# Altium footprint library BrewBit.PcbLib: 85 footprints (part 4 of 6)
Each footprint in its own frame and in the unit in brackets; x right, y up, seen from the top. Pads: shape width x height; smd on the part's side, far side on the other; paste and mask are expansions set on the pad; w line width, h text height; cw(c..) or ccw(c..) is an arc to the next point about the centre after c.
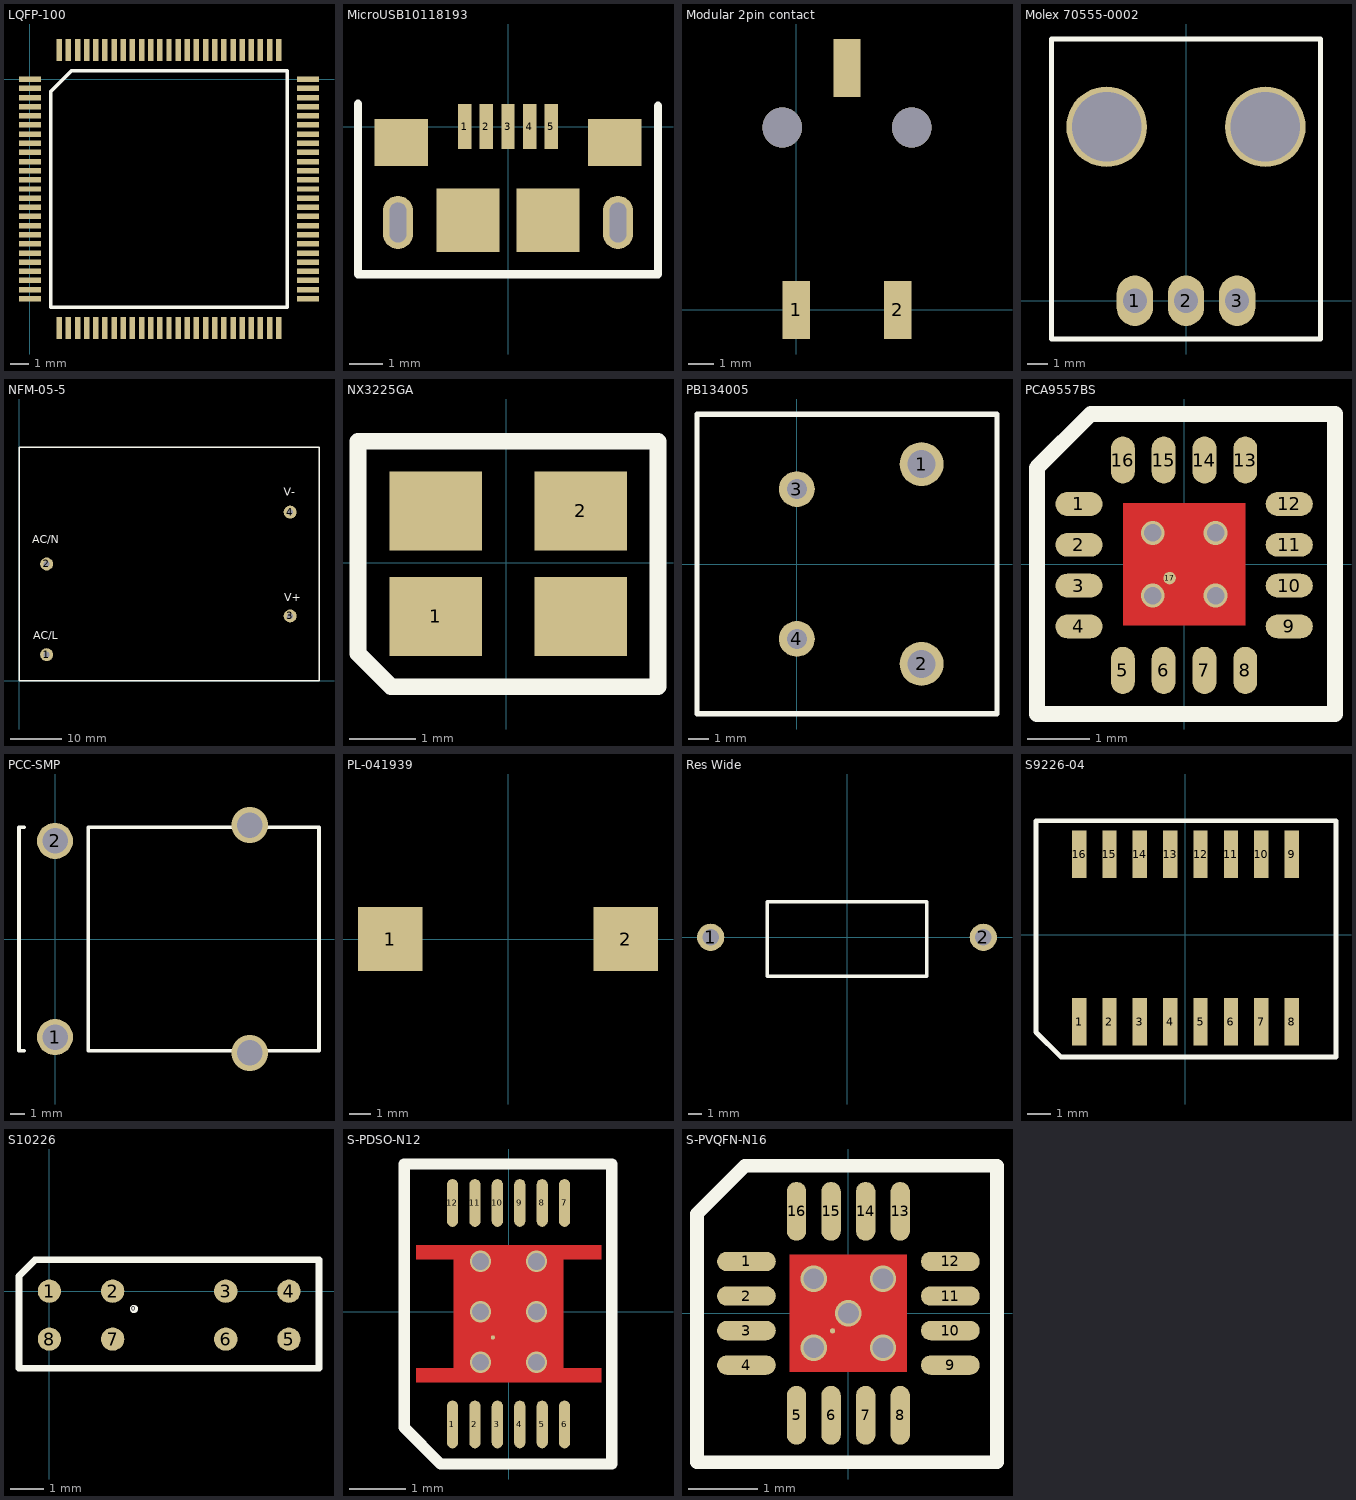
[diagram p3: the footprints below, top view; thin cyan lines are the x and y axes]

## LQFP-100 [mm]
pads (100):
  rect 1.2x0.3 smd mask+0.05: 1(0,0) 2(0,-0.5) 3(0,-1) 4(0,-1.5) 5(0,-2) 6(0,-2.5) 7(0,-3) 8(0,-3.5) 9(0,-4) 10(0,-4.5) 11(0,-5) 12(0,-5.5) 13(0,-6) 14(0,-6.5) 15(0,-7) 16(0,-7.5) 17(0,-8) 18(0,-8.5) 19(0,-9) 20(0,-9.5) 21(0,-10) 22(0,-10.5) 23(0,-11) 24(0,-11.5) 25(0,-12) 51(15.2,-12) 52(15.2,-11.5) 53(15.2,-11) 54(15.2,-10.5) 55(15.2,-10) 56(15.2,-9.5) 57(15.2,-9) 58(15.2,-8.5) 59(15.2,-8) 60(15.2,-7.5) 61(15.2,-7) 62(15.2,-6.5) 63(15.2,-6) 64(15.2,-5.5) 65(15.2,-5) 66(15.2,-4.5) 67(15.2,-4) 68(15.2,-3.5) 69(15.2,-3) 70(15.2,-2.5) 71(15.2,-2) 72(15.2,-1.5) 73(15.2,-1) 74(15.2,-0.5) 75(15.2,0)
  rect 0.3x1.2 smd mask+0.05: 26(1.6,-13.6) 27(2.1,-13.6) 28(2.6,-13.6) 29(3.1,-13.6) 30(3.6,-13.6) 31(4.1,-13.6) 32(4.6,-13.6) 33(5.1,-13.6) 34(5.6,-13.6) 35(6.1,-13.6) 36(6.6,-13.6) 37(7.1,-13.6) 38(7.6,-13.6) 39(8.1,-13.6) 40(8.6,-13.6) 41(9.1,-13.6) 42(9.6,-13.6) 43(10.1,-13.6) 44(10.6,-13.6) 45(11.1,-13.6) 46(11.6,-13.6) 47(12.1,-13.6) 48(12.6,-13.6) 49(13.1,-13.6) 50(13.6,-13.6) 76(13.6,1.6) 77(13.1,1.6) 78(12.6,1.6) 79(12.1,1.6) 80(11.6,1.6) 81(11.1,1.6) 82(10.6,1.6) 83(10.1,1.6) 84(9.6,1.6) 85(9.1,1.6) 86(8.6,1.6) 87(8.1,1.6) 88(7.6,1.6) 89(7.1,1.6) 90(6.6,1.6) 91(6.1,1.6) 92(5.6,1.6) 93(5.1,1.6) 94(4.6,1.6) 95(4.1,1.6) 96(3.6,1.6) 97(3.1,1.6) 98(2.6,1.6) 99(2.1,1.6) 100(1.6,1.6)
Top Overlay:
  lines w0.2: 1.135,-12.465 14.065,-12.465 14.065,0.465 2.27,0.465 1.135,-0.67 1.135,-12.465

## MAX31850KATB+ - TDFN-EP [mm]

## MicroUSB10118193 [mm] "Micro-USB connector"
pads (11):
  rect 0.4x1.35 smd: 1(-1.3,0.005) 2(-0.65,0.005) 3(0,0.005) 4(0.65,0.005) 5(1.3,0.005)
  oval 0.9x1.6 hole 0.5 slot 1.2 at 90 deg: ""(-3.3,-2.87) ""(3.3,-2.87)
  rect 1.6x1.4 smd: ""(-3.2,-0.47) ""(3.2,-0.47)
  rect 1.9x1.9 smd: ""(-1.2,-2.806) ""(1.2,-2.806)
Top Overlay:
  lines w0.254: -4.5,0.686 -4.5,-4.42 4.5,-4.42 4.5,0.635

## Modular 2pin contact [mm]
pads (3):
  rect 1.07x2.29 smd: 1(0,0) 2(4,0) ""(2,9.53)
via 4.55,7.19 diameter 1.57 hole 1.57
via -0.55,7.19 diameter 1.57 hole 1.57

## Molex 70555-0002 [mm] "3 pin header with locking tab"
height 6.99
pads (5):
  oval 1.8x2.5 hole 1.2: 1(-2.54,0) 2(0,0) 3(2.54,0)
  round 4 hole 3.45: ""(-3.94,8.64) ""(3.94,8.64)
Top Overlay:
  lines w0.254: -6.675,-1.9 -6.675,13 6.675,13 6.675,-1.9 -6.675,-1.9

## NFM-05-5 [mm] "5V 5W AC/DC power supply"
height 75
pads (4):
  round 2.5 hole 1.2: 1(5.33,5) 2(5.33,22.5) 3(52.33,12.47) 4(52.33,32.51)
Top Overlay:
  lines w0.254: 0,0 0,45 57.9,45 57.9,0 0,0
  text "V+" at 51.2,15.3 h1.52
  text "V-" at 51.1,35.65 h1.52
  text "AC/L" at 2.75,8 h1.52
  text "AC/N" at 2.575,26.55 h1.52

## NX3225GA [mm] "Crystal, 26.000000MHz, 10.0pF, 50 ohms max, 20/40 ppm, -40C to +85C"
pads (4):
  rect 1.4x1.2 smd: 1(-1.067,-0.813) 2(1.133,0.787) ""(-1.067,0.787) ""(1.133,-0.813)
Top Overlay:
  lines w0.254: -2.247,-1.378 -1.747,-1.878 2.303,-1.878 2.303,1.842 -2.247,1.842 -2.247,-1.378

## PB134005 [mm] "SPST Relay"
pads (4):
  round 2.2 hole 1.4: 1(6.25,5) 2(6.25,-5)
  round 1.8 hole 1: 3(0,3.75) 4(0,-3.75)
Top Overlay:
  lines w0.254: -5,-7.5 10.025,-7.5 10.025,7.5 -5,7.5 -5,-7.5

## PCA9557BS [mm]
pads (17):
  oval 0.75x0.38 smd: 1(-1.676,0.96) 2(-1.676,0.31) 3(-1.676,-0.34) 4(-1.676,-0.99) 9(1.674,-0.99) 10(1.674,-0.34) 11(1.674,0.31) 12(1.674,0.96)
  oval 0.38x0.75 smd: 5(-0.976,-1.69) 6(-0.326,-1.69) 7(0.324,-1.69) 8(0.974,-1.69) 13(0.974,1.66) 14(0.324,1.66) 15(-0.326,1.66) 16(-0.976,1.66)
  round 0.2 smd mask+0: 17(-0.232,-0.22)
via -0.5,-0.5 diameter 0.381 hole 0.279
via 0.5,-0.5 diameter 0.381 hole 0.279
via 0.5,0.5 diameter 0.381 hole 0.279
via -0.5,0.5 diameter 0.381 hole 0.279
Top Layer:
  region: 0.975,-0.975 0.975,0.975 -0.975,0.975 -0.975,-0.975
Top Overlay:
  lines w0.254: -2.346,-2.385 2.404,-2.385 2.404,2.393 -1.486,2.393 -2.346,1.534 -2.346,-2.385
Top Paste:
  region: -0.1,-0.975 -0.1,-0.1 -0.975,-0.1 -0.975,-0.975
  region: 0.975,-0.975 0.975,-0.1 0.1,-0.1 0.1,-0.975
  region: 0.975,0.1 0.975,0.975 0.1,0.975 0.1,0.1
  region: -0.1,0.1 -0.1,0.975 -0.975,0.975 -0.975,0.1
Top Solder:
  region: 1.05,-1.05 1.05,1.05 -1.05,1.05 -1.05,-1.05

## PCC-SMP [mm] "Thermocouple Connector"
pads (2):
  round 2.5 hole 1.77: 1(0,-6.8) 2(0,6.8)
via 13.5,-7.9 diameter 2.5 hole 1.77
via 13.5,7.9 diameter 2.5 hole 1.77
Top Overlay:
  lines w0.254: -2.15,-7.75 -2.5,-7.75 -2.5,7.75 -2.15,7.75 ; 2.3,-7.75 18.3,-7.75 18.3,7.75 2.3,7.75 2.3,-7.75

## PL-041939 [mm] "Li-Po battery pack"
pads (2):
  rect 3x3 smd: 1(-5.514,0) 2(5.486,0)

## Res Wide [mm]
pads (2):
  round 2 hole 1.2: 1(-10,0) 2(10,0)
Top Overlay:
  lines w0.254: -5.842,-2.85 5.842,-2.85 5.842,2.6 -5.842,2.6 -5.842,-2.85

## S9226-04 [mm]
pads (16):
  rect 0.6x2 smd: 1(-4.445,-3.632) 2(-3.175,-3.632) 3(-1.905,-3.632) 4(-0.635,-3.632) 5(0.635,-3.632) 6(1.905,-3.632) 7(3.175,-3.632) 8(4.445,-3.632) 9(4.445,3.378) 10(3.175,3.378) 11(1.905,3.378) 12(0.635,3.378) 13(-0.635,3.378) 14(-1.905,3.378) 15(-3.175,3.378) 16(-4.445,3.378)
Top Overlay:
  lines w0.2: -6.248,4.756 -6.248,-4.064 -5.198,-5.114 ; -6.248,4.775 6.277,4.775 ; -5.182,-5.105 6.293,-5.105 ; 6.299,-5.105 6.299,4.765

## S10226 [mm]
pads (9):
  round 0.25 on Top Overlay: 0(2.54,-0.533)
  round 0.7 smd: 1(0,0) 2(1.9,0) 3(5.3,0) 4(7.2,0) 5(7.2,-1.44) 6(5.3,-1.44) 7(1.9,-1.44) 8(0,-1.44)
Top Overlay:
  lines w0.2: -0.914,-2.311 8.103,-2.311 8.103,0.94 -0.432,0.94 -0.914,0.457 -0.914,-2.311

## S-PDSO-N12 [mm]
pads (13):
  oval 0.2x0.85 smd mask+0.05: 1(-1,-2.009) 2(-0.6,-2.009) 3(-0.2,-2.009) 4(0.2,-2.009) 5(0.6,-2.009) 6(1,-2.009) 7(1,1.941) 8(0.6,1.941) 9(0.2,1.941) 10(-0.2,1.941) 11(-0.6,1.941) 12(-1,1.941)
  round 0.076 smd: 13(-0.279,-0.457)
via 0.499,-0.9 diameter 0.381 hole 0.3
via 0.499,0 diameter 0.381 hole 0.3
via 0.499,0.9 diameter 0.381 hole 0.3
via -0.501,-0.9 diameter 0.381 hole 0.3
via -0.501,0 diameter 0.381 hole 0.3
via -0.501,0.9 diameter 0.381 hole 0.3
Top Layer:
  region: -1.65,1.191 1.65,1.191 1.65,0.941 0.975,0.941 0.975,-1.009 1.65,-1.009 1.65,-1.259 -1.65,-1.259 -1.65,-1.009 -0.975,-1.009 -0.975,0.941 -1.65,0.941
Top Overlay:
  lines w0.2: -1.86,-2.064 -1.86,2.636 1.84,2.636 1.84,-2.714 -1.21,-2.714 -1.86,-2.064
Top Paste:
  region: -1.1,0.941 -1.1,1.191 -1.625,1.191 -1.625,0.941
  region: 1.625,0.941 1.625,1.191 1.1,1.191 1.1,0.941
  region: 1.625,-1.259 1.625,-1.009 1.1,-1.009 1.1,-1.259
  region: -1.1,-1.259 -1.1,-1.009 -1.625,-1.009 -1.625,-1.259
  region: -0.1,0.066 -0.1,1.066 -0.9,1.066 -0.9,0.066
  region: 0.9,0.066 0.9,1.066 0.1,1.066 0.1,0.066
  region: 0.9,-1.134 0.9,-0.134 0.1,-0.134 0.1,-1.134
  region: -0.1,-1.134 -0.1,-0.134 -0.9,-0.134 -0.9,-1.134
Top Solder:
  region: -1.7,1.241 1.7,1.241 1.7,0.891 1.025,0.891 1.025,-0.959 1.7,-0.959 1.7,-1.309 -1.7,-1.309 -1.7,-0.959 -1.025,-0.959 -1.025,0.891 -1.7,0.891

## S-PVQFN-N16 [mm]
pads (17):
  oval 0.85x0.28 smd mask+0.07: 1(-1.475,0.75) 2(-1.475,0.25) 3(-1.475,-0.25) 4(-1.475,-0.75) 9(1.475,-0.75) 10(1.475,-0.25) 11(1.475,0.25) 12(1.475,0.75)
  oval 0.28x0.85 smd mask+0.07: 5(-0.75,-1.475) 6(-0.25,-1.475) 7(0.25,-1.475) 8(0.75,-1.475) 13(0.75,1.475) 14(0.25,1.475) 15(-0.25,1.475) 16(-0.75,1.475)
  round 0.076 smd: 17(-0.229,-0.254)
via 0,0 diameter 0.381 hole 0.3
via 0.5,0.5 diameter 0.381 hole 0.3
via -0.5,0.5 diameter 0.381 hole 0.3
via -0.5,-0.5 diameter 0.381 hole 0.3
via 0.5,-0.5 diameter 0.381 hole 0.3
Top Layer:
  rectangle: -0.85,-0.85 0.85,0.85
Top Overlay:
  lines w0.2: -2.19,-2.155 -2.19,1.44 -1.495,2.135 2.15,2.135 2.15,-2.155 -2.19,-2.155
Top Paste:
  rectangle: -0.8,0.1 -0.1,0.8
  rectangle: 0.1,0.1 0.8,0.8
  rectangle: -0.8,-0.8 -0.1,-0.1
  rectangle: 0.1,-0.8 0.8,-0.1
Top Solder:
  rectangle: -0.9,-0.9 0.9,0.9